# Altium footprint library MPM3632SGPQ-P.PcbLib: 1 footprints
Each footprint in its own frame and in the unit in brackets; x right, y up, seen from the top. Pads: shape width x height; smd on the part's side, far side on the other; paste and mask are expansions set on the pad; w line width, h text height; cw(c..) or ccw(c..) is an arc to the next point about the centre after c.
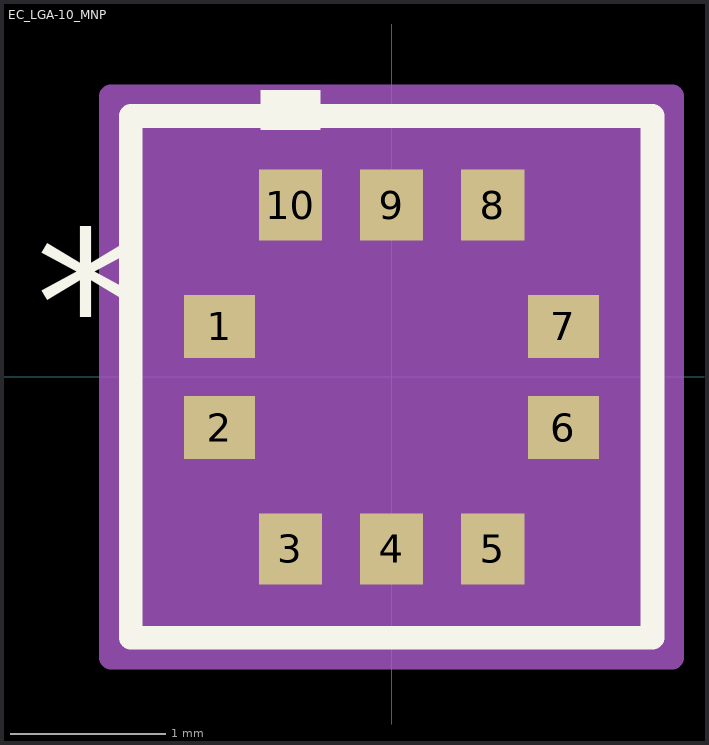
[diagram p0: the footprint, top view; thin cyan lines are the x and y axes]

## EC_LGA-10_MNP [mil]
pads (10):
  rect 18x16 smd paste+0 mask+0: 1(-43.5,12.8) 2(-43.5,-12.8) 6(43.5,-12.8) 7(43.5,12.8)
  rect 16x18 smd paste+0 mask+0: 3(-25.59,-43.5) 4(0,-43.5) 5(25.59,-43.5) 8(25.59,43.5) 9(0,43.5) 10(-25.59,43.5)
Top Overlay:
  region: -18.09,62.5 -33.09,62.5 -33.09,72.5 -18.09,72.5
  lines w6: -66,-66 66,-66 66,66 -66,66 -66,-66
  text "*" at -90,0.59 h50
Mechanical 13:
  lines w1: -61,11 -11,61 ; -61,-61 61,-61 ; -61,-61 -61,61 ; -61,-61 -61,-61 ; -61,61 61,61 ; -61,61 -61,61 ; 61,-61 61,-61 ; 61,-61 61,61 ; 61,61 61,61 ; -61,-20.8 -61,-4.8 -52.5,-4.8 -52.5,-20.8 -61,-20.8 ; -61,4.8 -61,20.8 -52.5,20.8 -52.5,4.8 -61,4.8 ; -33.59,-61 -17.59,-61 -17.59,-52.5 -33.59,-52.5 -33.59,-61 ; -33.59,52.5 -17.59,52.5 -17.59,61 -33.59,61 -33.59,52.5 ; -8,-61 8,-61 8,-52.5 -8,-52.5 -8,-61 ; -8,52.5 8,52.5 8,61 -8,61 -8,52.5 ; 17.59,-61 33.59,-61 33.59,-52.5 17.59,-52.5 17.59,-61 ; 17.59,52.5 33.59,52.5 33.59,61 17.59,61 17.59,52.5 ; 52.5,-20.8 61,-20.8 61,-4.8 52.5,-4.8 52.5,-20.8 ; 52.5,4.8 61,4.8 61,20.8 52.5,20.8 52.5,4.8
  text "*" at -47,0.59 h50
Mechanical 15:
  region: -43.59,-71 -71,-71 -71,-30.8 -71,30.8 -71,71 -43.59,71 43.59,71 71,71 71,30.8 71,-30.8 71,-71 43.59,-71
  lines w6: -71,-30.8 -71,-71 -43.59,-71 ; -71,-30.8 -71,-30.8 ; -71,-30.8 -71,30.8 ; -71,30.8 -71,30.8 ; -71,30.8 -71,71 -43.59,71 ; -43.59,-71 43.59,-71 ; -43.59,-71 -43.59,-71 ; -43.59,71 -43.59,71 ; -43.59,71 43.59,71 ; 43.59,-71 71,-71 71,-30.8 ; 43.59,-71 43.59,-71 ; 43.59,71 43.59,71 ; 43.59,71 71,71 71,30.8 ; 71,-30.8 71,30.8 ; 71,-30.8 71,-30.8 ; 71,30.8 71,30.8